# Altium schematic symbol library 光耦.SchLib: 5 symbols
Pins are listed as number, name and electrical type; pins without a type are passive.

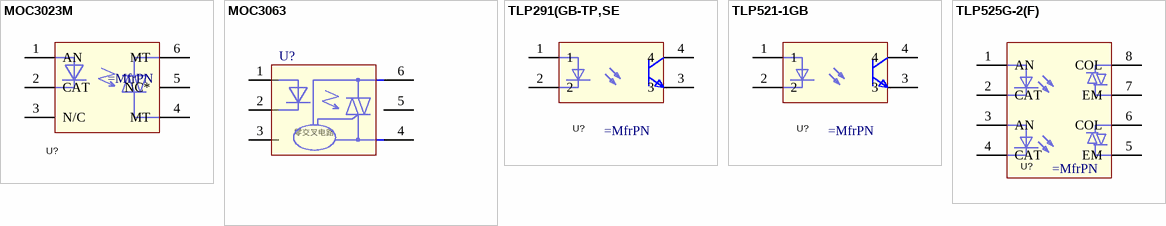
[diagram p0: symbols MOC3023M to TLP525G-2(F)]

## MOC3023M
designator U?
pins: 1 AN, 2 CAT, 3 N/C, 4 MT, 5 NC*, 6 MT

## MOC3063
designator U?
pins: 1 A, 2 K, 3 NC, 4 MT, 5 NC, 6 MT
text: 零交叉电路

## TLP291(GB-TP,SE
designator U?
pins: 1, 2, 3, 4

## TLP521-1GB
designator U?
pins: 1, 2, 3, 4

## TLP525G-2(F)
designator U?
pins: 1 AN, 2 CAT, 3 AN, 4 CAT, 5 EM, 6 COL, 7 EM, 8 COL